# Altium footprint library PcbLibrary.PcbLib: 10 footprints
Each footprint in its own frame and in the unit in brackets; x right, y up, seen from the top. Pads: shape width x height; smd on the part's side, far side on the other; paste and mask are expansions set on the pad; w line width, h text height; cw(c..) or ccw(c..) is an arc to the next point about the centre after c.
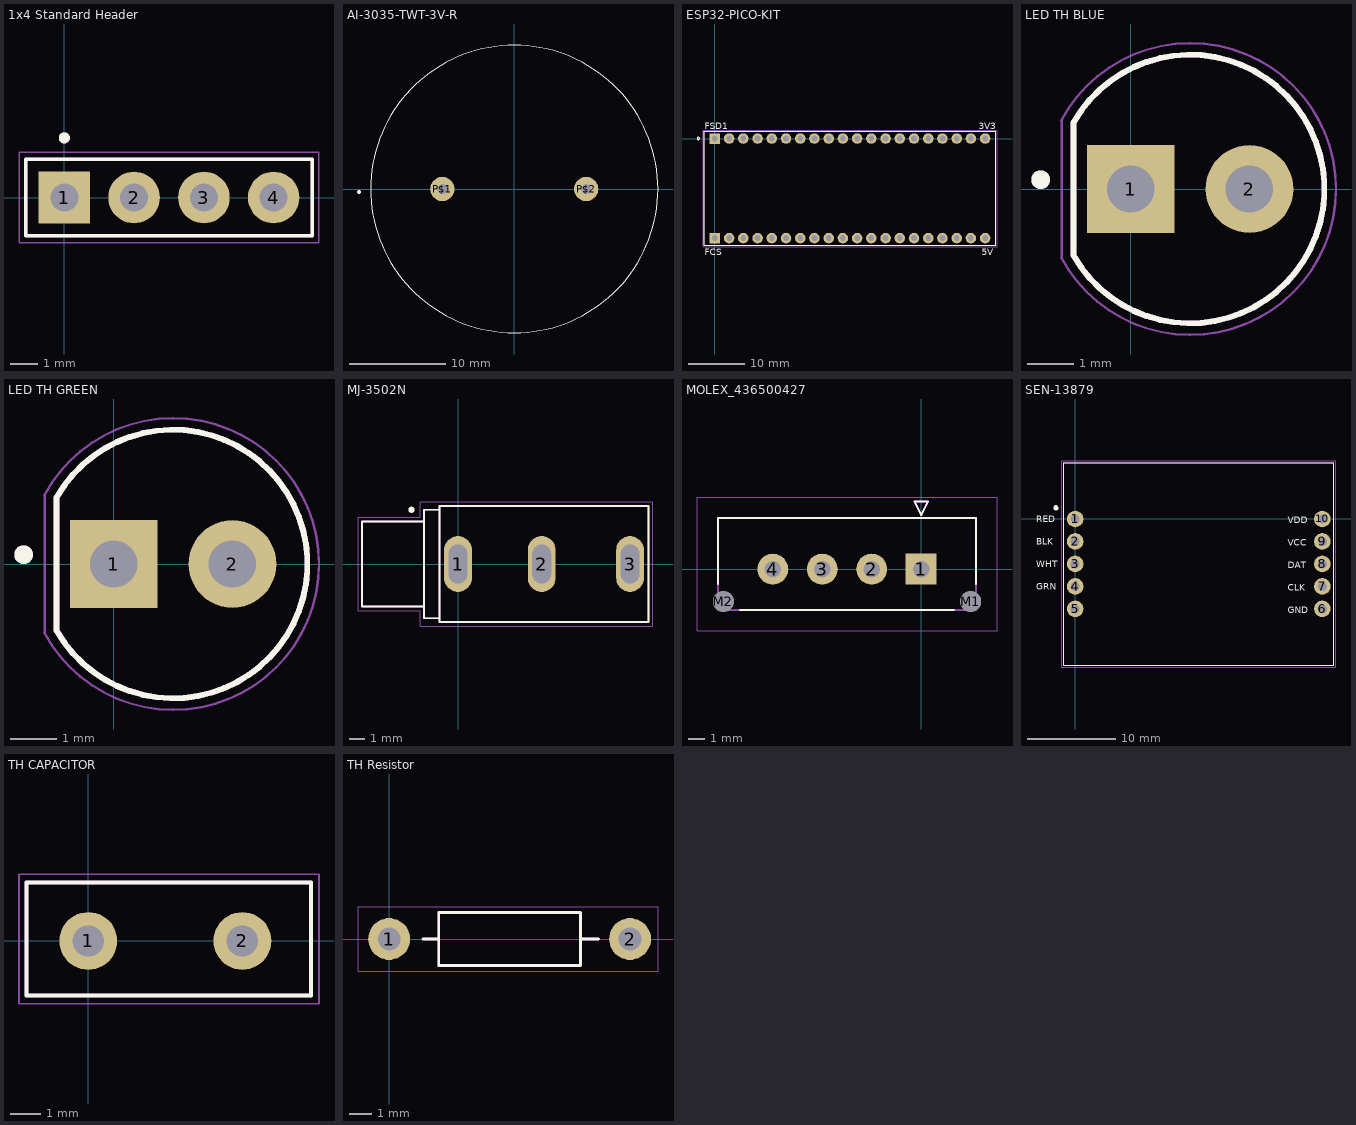
[diagram p0: the footprints below, top view; thin cyan lines are the x and y axes]

## 1x4 Standard Header [mil]
pads (4):
  rect 74x74 hole 40: 1(0,0)
  round 74 hole 40: 2(100,0) 3(200,0) 4(300,0)
Top Overlay:
  circle w7.87: c0,85.43 r3.94
  lines w5: -55,-55 355,-55 355,55 -55,55 -55,-55
Mechanical 13:
  circle w7.87: c0,85.43 r3.94
  lines w5: -55,-55 355,-55 355,55 -55,55 -55,-55
Mechanical 15:
  lines w1.97: -65,-65 365,-65 365,65 -65,65 -65,-65

## AI-3035-TWT-3V-R [mil] "3V 9mA Buzzer"
pads (2):
  round 100 hole 40: P$1(-295.28,0) P$2(295.28,0)
Top Overlay:
  circle w7.87: c-638.11,-12.2 r3.94
  circle w5: c0,0 r590.55

## ESP32-PICO-KIT [mil] "Standard Microcontroller"
pads (40):
  rect 74x74 hole 40: J2_1(0,0) J3_1(0,-700)
  round 74 hole 40: J2_2(100,0) J2_3(200,0) J2_4(300,0) J2_5(400,0) J2_6(500,0) J2_7(600,0) J2_8(700,0) J2_9(800,0) J2_10(900,0) J2_11(1000,0) J2_12(1100,0) J2_13(1200,0) J2_14(1300,0) J2_15(1400,0) J2_16(1500,0) J2_17(1600,0) J2_18(1700,0) J2_19(1800,0) J2_20(1900,0) J3_2(100,-700) J3_3(200,-700) J3_4(300,-700) J3_5(400,-700) J3_6(500,-700) J3_7(600,-700) J3_8(700,-700) J3_9(800,-700) J3_10(900,-700) J3_11(1000,-700) J3_12(1100,-700) J3_13(1200,-700) J3_14(1300,-700) J3_15(1400,-700) J3_16(1500,-700) J3_17(1600,-700) J3_18(1700,-700) J3_19(1800,-700) J3_20(1900,-700)
Top Overlay:
  circle w7.87: c-116.93,0.39 r8.8
  lines w5: -73.62,-749.61 1973.62,-749.61 1973.62,49.61 -73.62,49.61 -73.62,-749.61
  text "FSD1" at -70.53,63.6 h47.27
  text "FCS" at -71.28,-820.59 h47.3
  text "3V3" at 1855.52,63.62 h47.27
  text "5V" at 1875.45,-820.23 h47.27
Mechanical 13:
  lines w5: -73.62,-749.61 1973.62,-749.61 1973.62,49.61 -73.62,49.61 -73.62,-749.61
Mechanical 15:
  lines w1.97: -83.46,-759.45 1983.46,-759.45 1983.46,59.45 -83.46,59.45 -83.46,-759.45
3D body "ESP32-PICO-KIT.STEP": height 308.23, standoff -227.2, extent -73.62,-754.33 2010.17,54.33

## LED TH BLUE [mil] "Standard 5mm Through Hole LED"
pads (2):
  rect 74x74 hole 40: 1(0,0)
  round 74 hole 40: 2(100,0)
Top Overlay:
  circle w7.87: c-75.98,7.87 r3.94
  lines w5: -48.43,-55.91 -48.43,55.91 ; -48.02,-56.61 ccw(c50.03,0) -48.02,56.61
Mechanical 13:
  circle w7.87: c-75.98,7.87 r3.94
  lines w5: -48.43,-55.91 -48.43,55.91 ; -48.02,-56.61 ccw(c50.03,0) -48.02,56.61
Mechanical 15:
  lines w1.97: -58.63,-57.75 ccw(c49.99,0) -58.63,57.75 ; -58.27,-58.43 -58.27,58.43
3D body "LED5mmBlue.stp": height 340.21, standoff -982.62, extent -50.84,-115.98 165.06,116.3

## LED TH GREEN [mil] "Standard 5mm Through Hole LED"
pads (2):
  rect 74x74 hole 40: 1(0,0)
  round 74 hole 40: 2(100,0)
Top Overlay:
  circle w7.87: c-75.98,7.87 r3.94
  lines w5: -48.43,-55.91 -48.43,55.91 ; -48.02,-56.61 ccw(c50.03,0) -48.02,56.61
Mechanical 13:
  circle w7.87: c-75.98,7.87 r3.94
  lines w5: -48.43,-55.91 -48.43,55.91 ; -48.02,-56.61 ccw(c50.03,0) -48.02,56.61
Mechanical 15:
  lines w1.97: -58.63,-57.75 ccw(c49.99,0) -58.63,57.75 ; -58.27,-58.43 -58.27,58.43
3D body "LED5mmGreen.stp": height 340.21, standoff -982.62, extent -50.37,-116.14 165.53,116.14

## MJ-3502N [mm] "3.5mm Mono Jack RA"
pads (3):
  oval 1.8x3.6 hole 1.2 slot 2.5 at 90 deg: 1(0,0) 2(5.4,0) 3(11.1,0)
Top Overlay:
  circle w0.2: c-3,3.5 r0.1
  lines w0.127: -2.2,-2.75 -2.2,2.75 ; -2.2,-2.75 -2.2,-3.5 -1.2,-3.5 ; -2.2,-2.75 -6.2,-2.75 -6.2,2.75 -2.2,2.75 ; -2.2,2.75 -2.2,3.5 -1.2,3.5 ; -1.2,-3.5 -1.2,-3.75 12.3,-3.75 12.3,3.75 -1.2,3.75 -1.2,3.5 ; -1.2,-3.5 -1.2,3.5
Mechanical 13:
  lines w0.127: -2.25,-2.75 -6.2,-2.75 -6.2,2.75 -2.2,2.75 ; -2.2,2.75 -2.2,3.5 -1.2,3.5 ; -2.2,2.75 -2.2,-3.5 -1.2,-3.5 ; -1.2,-3.5 -1.2,-3.75 12.3,-3.75 12.3,3.75 -1.2,3.75 -1.2,3.5 ; -1.2,-3.5 -1.2,3.5
Mechanical 15:
  lines w0.05: -6.45,-3 -2.45,-3 -2.45,-4 12.55,-4 12.55,4 -2.45,4 -2.45,3 -6.45,3 -6.45,-3
3D body "CUI_DEVICES_MJ-3502.step": height 11.26, standoff -4.53, extent -6.2,-3.906 12.3,3.698

## MOLEX_436500427 [mm]
pads (6):
  rect 1.88x1.88 hole 1.02 mask+0.076: 1(0,0)
  round 1.88 hole 1.02 mask+0.076: 2(-3,0) 3(-6,0) 4(-9,0)
  round 1.27 hole 1.27 unplated mask+0.076: M1(3,-1.96) M2(-12,-1.96)
Top Overlay:
  lines w0.127: -12.325,-0.9 -12.325,3.1 3.325,3.1 3.325,-0.9 ; -11,-2.47 2,-2.47 ; -0.4,4.1 0,3.3 0.4,4.1 -0.4,4.1
Top Solder:
  circle w0.711: c-12,-1.96 r0.356
Mechanical 13:
  lines w0.127: -12.325,-2.47 -12.325,3.1 3.325,3.1 3.325,-2.47 -12.325,-2.47 ; -0.4,4.1 0,3.3 0.4,4.1 -0.4,4.1
Mechanical 15:
  lines w0.05: -13.595,-3.74 -13.595,4.37 4.595,4.37 4.595,-3.74 -13.595,-3.74
3D body "436500427.stp": height 10, standoff -3.18, extent -12.325,-2.47 3.325,3.1

## SEN-13879 [mil] "Load Cell Amplifier"
pads (10):
  round 74 hole 40: 1(0,0) 2(0,-100) 3(0,-200) 4(0,-300) 5(0,-400) 6(1100,-400) 7(1100,-300) 8(1100,-200) 9(1100,-100) 10(1100,0)
Top Overlay:
  lines w5: -50,-650 -50,250 1150,250 1150,-650 -50,-650
  lines w11.81: -84.16,55.85 ccw(c-85,50) -79.09,50
  text "RED" at -174,-14 h30
  text "BLK" at -174,-114 h30
  text "WHT" at -174,-214 h30
  text "GRN" at -174,-314 h30
  text "GND" at 946,-419 h30
  text "CLK" at 946,-319 h30
  text "DAT" at 946,-219 h30
  text "VCC" at 946,-119 h30
  text "VDD" at 946,-19 h30
Mechanical 13:
  lines w5: -50,-650 1150,-650 1150,250 -50,250 -50,-650
Mechanical 15:
  lines w1.97: -59.84,-659.84 1160.63,-659.84 1160.63,259.45 -59.84,259.45 -59.84,-659.84
3D body "SEN-13879--3DModel-STEP-56544.STEP": height 261.42, standoff 100, extent -50,-650 1150,250
3D body "BPSC-05.stp": height 218, standoff -236.33, extent -50,-450 50,50
3D body "BPSC-05.stp": height 218, standoff -236.33, extent 1050,-450 1150,50

## TH CAPACITOR [mil]
pads (2):
  round 74 hole 40: 1(0,0) 2(197,0)
Top Overlay:
  lines w5: -78.74,-70 285,-70 285,75 -78.74,75 -78.74,-70
Mechanical 13:
  lines w5: -78.74,-70 285,-70 285,75 -78.74,75 -78.74,-70
Mechanical 15:
  lines w1.97: -88.58,-80 295,-80 295,85 -88.58,85 -88.58,-80

## TH Resistor [mil]
pads (2):
  round 74 hole 40: 1(0,0) 2(425.59,0)
Top Overlay:
  lines w5: 60,0 87.8,0 ; 337.8,0 370,0 ; 87.8,-47.05 337.8,-47.05 337.8,47.05 87.8,47.05 87.8,-47.05
Mechanical 13:
  lines w5: 60,0 87.8,0 ; 337.8,0 370,0 ; 87.8,-47.05 87.8,47.05 337.8,47.05 337.8,-47.05 87.8,-47.05
Mechanical 15:
  lines w1.97: -55,-56.89 -55,56.89 77.95,56.89 347.64,56.89 475,56.89 475,-56.89 347.64,-56.89 77.95,-56.89 -55,-56.89